# Altium integrated library Altium Database Library V2.IntLib: 825 symbols (part 7 of 40)

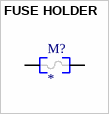
[diagram p138: symbol FUSE HOLDER]

## FUSE HOLDER
designator M?
pins: 1, 2


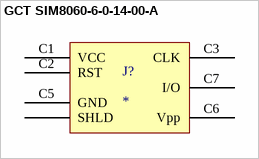
[diagram p139: symbol GCT SIM8060-6-0-14-00-A]

## GCT SIM8060-6-0-14-00-A
designator J?
pins: C1 VCC, C2 RST, C3 CLK, C5 GND, C6 Vpp, C7 I/O, S SHLD


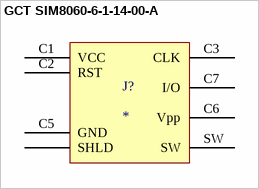
[diagram p140: symbol GCT SIM8060-6-1-14-00-A]

## GCT SIM8060-6-1-14-00-A
designator J?
pins: C1 VCC, C2 RST, C3 CLK, C5 GND, C6 Vpp, C7 I/O, S SHLD, SW


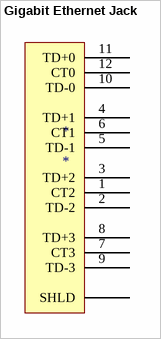
[diagram p141: symbol Gigabit Ethernet Jack]

## Gigabit Ethernet Jack
designator *
pins: 1 CT2, 2 TD-2, 3 TD+2, 4 TD+1, 5 TD-1, 6 CT1, 7 CT3, 8 TD+3, 9 TD-3, 10 TD-0, 11 TD+0, 12 CT0, S SHLD


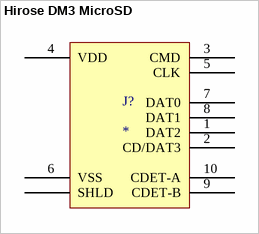
[diagram p142: symbol Hirose DM3 MicroSD]

## Hirose DM3 MicroSD
designator J?
pins: 1 DAT2, 2 CD/DAT3, 3 CMD, 4 VDD, 5 CLK, 6 VSS, 7 DAT0, 8 DAT1, 9 CDET-B, 10 CDET-A, S SHLD


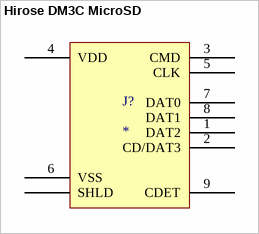
[diagram p143: symbol Hirose DM3C MicroSD]

## Hirose DM3C MicroSD
designator J?
pins: 1 DAT2, 2 CD/DAT3, 3 CMD, 4 VDD, 5 CLK, 6 VSS, 7 DAT0, 8 DAT1, 9 CDET, S SHLD


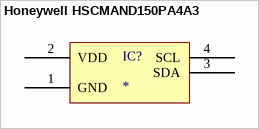
[diagram p144: symbol Honeywell HSCMAND150PA4A3]

## Honeywell HSCMAND150PA4A3
designator IC?
pins: 1 GND "Ground", 2 VDD "Positive supply voltage", 3 SDA "Serial Data input/I2C data IO", 4 SCL "Serial Data Clock"


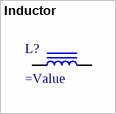
[diagram p145: symbol Inductor]

## Inductor
designator L?
SMT Inductor
pins: 1, 2


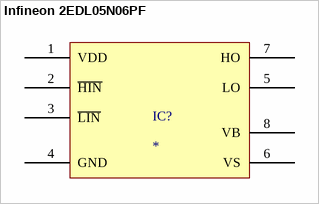
[diagram p146: symbol Infineon 2EDL05N06PF]

## Infineon 2EDL05N06PF
designator IC?
pins: 1 VDD, 2 ~{HIN}, 3 ~{LIN}, 4 GND, 5 LO, 6 VS, 7 HO, 8 VB


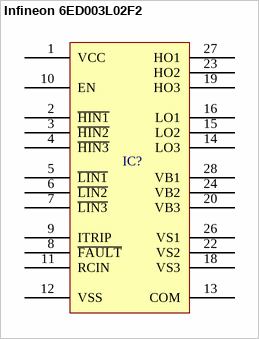
[diagram p147: symbol Infineon 6ED003L02F2]

## Infineon 6ED003L02F2
designator IC?
pins: 1 VCC, 2 ~{HIN1}, 3 ~{HIN2}, 4 ~{HIN3}, 5 ~{LIN1}, 6 ~{LIN2}, 7 ~{LIN3}, 8 ~{FAULT}, 9 ITRIP, 10 EN, 11 RCIN, 12 VSS, 13 COM, 14 LO3, 15 LO2, 16 LO1, 18 VS3, 19 HO3, 20 VB3, 22 VS2, 23 HO2, 24 VB2, 26 VS1, 27 HO1, 28 VB1


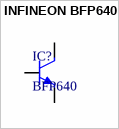
[diagram p148: symbol INFINEON BFP640]

## INFINEON BFP640
designator IC?, comment BFP640
NPN Silicon Germanium RF Transistor
pins: 1 B, 2 E, 3 C, 4 E


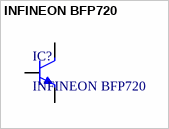
[diagram p149: symbol INFINEON BFP720]

## INFINEON BFP720
designator IC?
NPN Silicon Germanium RF Transistor
pins: 1 B, 2 E, 3 C, 4 E


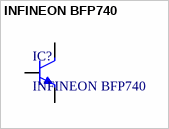
[diagram p150: symbol INFINEON BFP740]

## INFINEON BFP740
designator IC?
NPN Silicon Germanium RF Transistor
pins: 1 B, 2 E, 3 C, 4 E


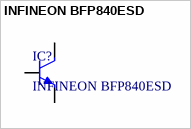
[diagram p151: symbol INFINEON BFP840ESD]

## INFINEON BFP840ESD
designator IC?
NPN Silicon Germanium RF Transistor
pins: 1 B, 2 E, 3 C, 4 E


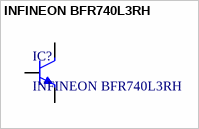
[diagram p152: symbol INFINEON BFR740L3RH]

## INFINEON BFR740L3RH
designator IC?
NPN Silicon Germanium RF Transistor
pins: 1 B, 2 C, 3 E


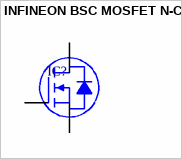
[diagram p153: symbol INFINEON BSC MOSFET N-CH]

## INFINEON BSC MOSFET N-CH
designator IC?
pins: 1 S, 2 S, 3 S, 4 G, 5 D, 6 D, 7 D, 8 D


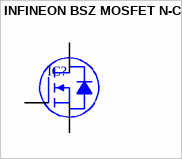
[diagram p154: symbol INFINEON BSZ MOSFET N-CH]

## INFINEON BSZ MOSFET N-CH
designator IC?
pins: 1 S, 2 S, 3 S, 4 G, 5 D, 6 D, 7 D, 8 D


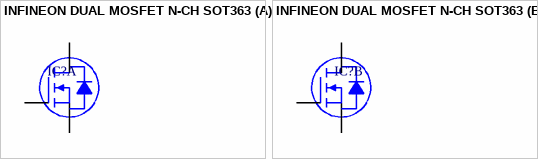
[diagram p155: symbol INFINEON DUAL MOSFET N-CH SOT363]

## INFINEON DUAL MOSFET N-CH SOT363
designator IC?
part A pins: 1 S1, 2 G1, 6 D1
part B pins: 3 D2, 4 S2, 5 G2


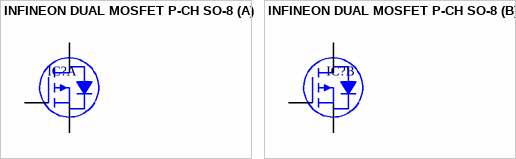
[diagram p156: symbol INFINEON DUAL MOSFET P-CH SO-8]

## INFINEON DUAL MOSFET P-CH SO-8
designator IC?
part A pins: 1 S1, 2 G1, 7 D1, 8 D1
part B pins: 3 S2, 4 G2, 5 D2, 6 D2


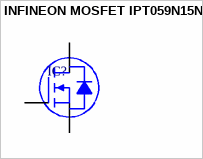
[diagram p157: symbol INFINEON MOSFET IPT059N15N3]

## INFINEON MOSFET IPT059N15N3
designator IC?
pins: D, G, S


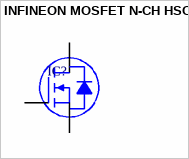
[diagram p158: symbol INFINEON MOSFET N-CH HSOF]

## INFINEON MOSFET N-CH HSOF
designator IC?
pins: 1 G, 2 S, 3 S, 4 S, 5 S, 6 S, 7 S, 8 S, 9 D


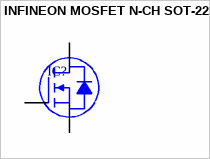
[diagram p159: symbol INFINEON MOSFET N-CH SOT-223]

## INFINEON MOSFET N-CH SOT-223
designator IC?
pins: 1 G, 2 D, 3 S, 4 D


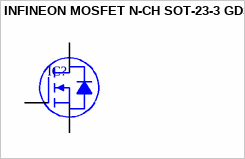
[diagram p160: symbol INFINEON MOSFET N-CH SOT-23-3 GDS]

## INFINEON MOSFET N-CH SOT-23-3 GDS
designator IC?
pins: 1 G, 2 D, 3 S
